# Altium footprint library Connector_Molex.PcbLib: 815 footprints (part 24 of 51)
Each footprint in its own frame and in the unit in brackets; x right, y up, seen from the top. Pads: shape width x height; smd on the part's side, far side on the other; paste and mask are expansions set on the pad; w line width, h text height; cw(c..) or ccw(c..) is an arc to the next point about the centre after c.
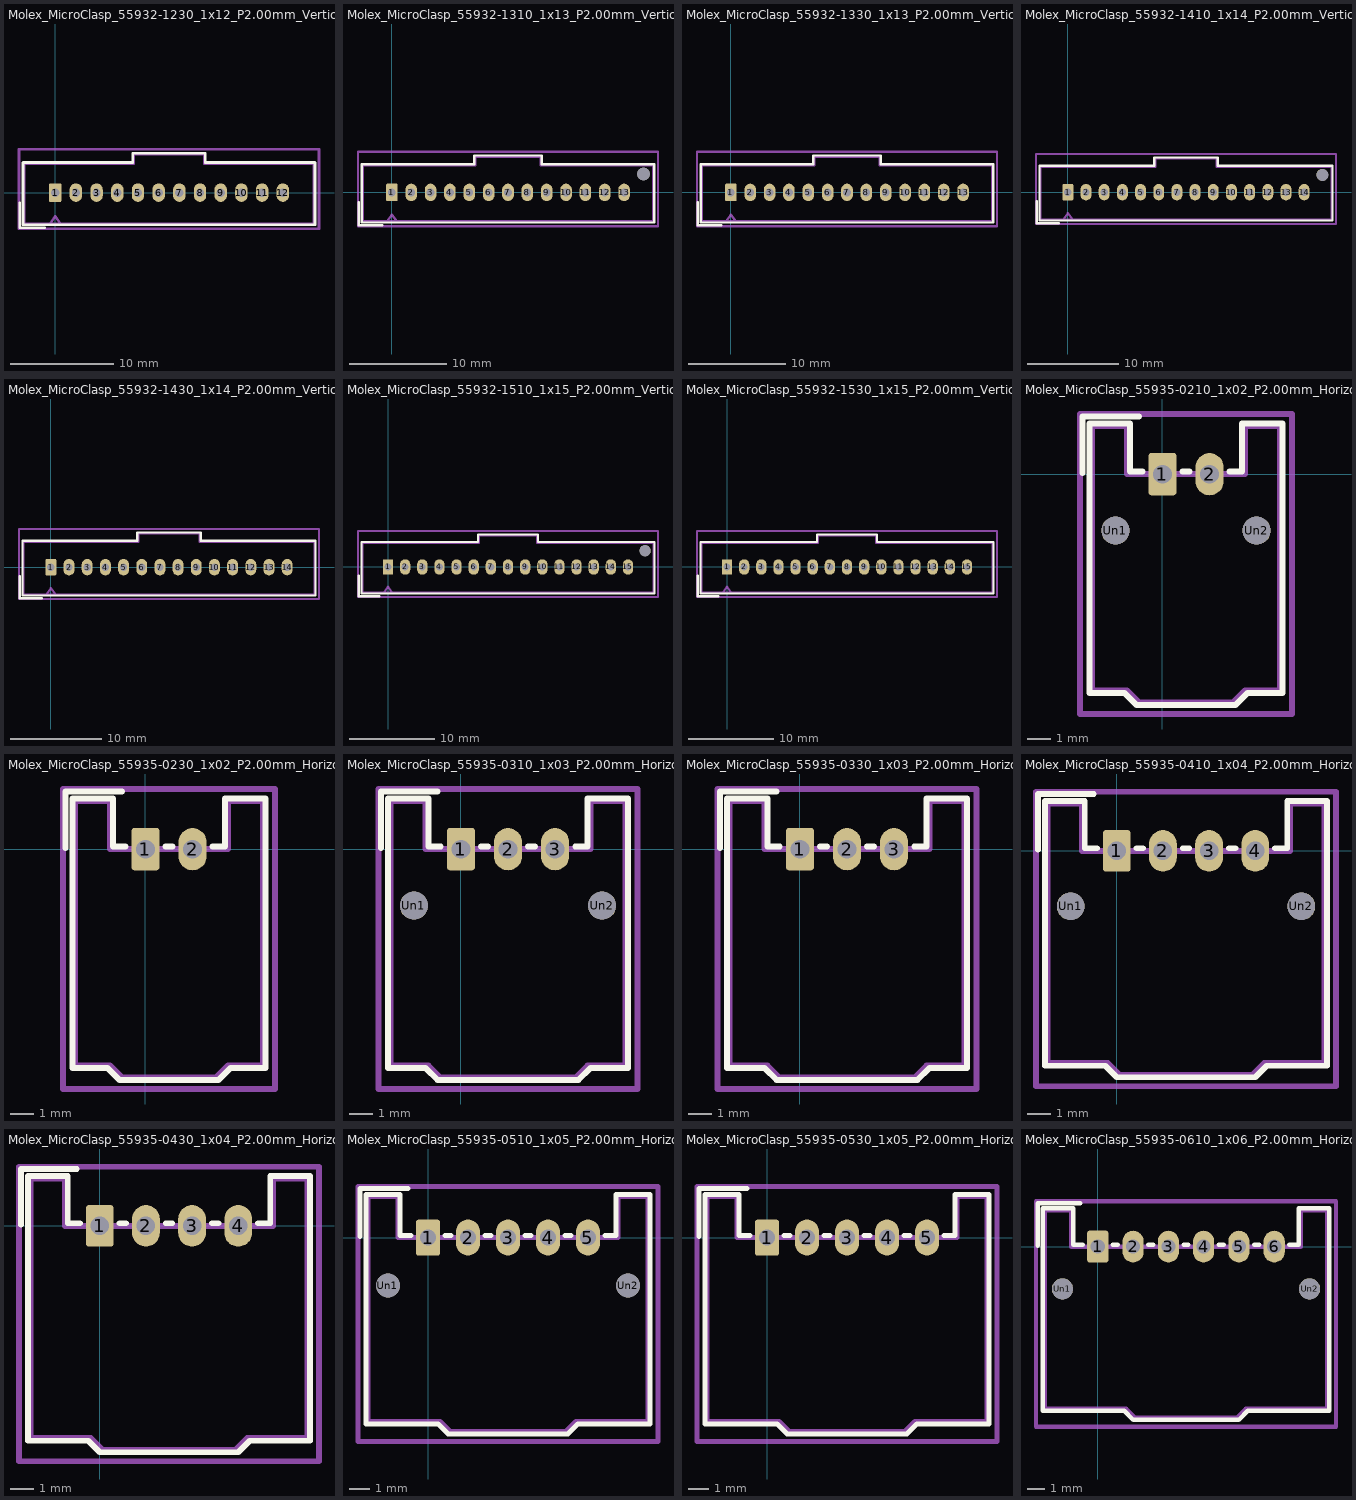
[diagram p23: the footprints below, top view; thin cyan lines are the x and y axes]

## Molex_MicroClasp_55932-1230_1x12_P2.00mm_Vertical [mm]
pads (12):
  rrect21% 1.2x1.8 hole 0.8: 1(0,0)
  rrect100% 1.2x1.8 hole 0.8: 2(2,0) 3(4,0) 4(6,0) 5(8,0) 6(10,0) 7(12,0) 8(14,0) 9(16,0) 10(18,0) 11(20,0) 12(22,0)
F.SilkS:
  lines w0.254: -3.41,-1 -3.41,-3.41 -1,-3.41 ; -3.11,-3.11 11,-3.11 25.11,-3.11 25.11,2.91 14.5,2.91 14.5,3.81 11,3.81 7.5,3.81 7.5,2.91 -3.11,2.91 -3.11,-3.11
Top Assembly:
  lines w0.254: -0.5,-3 0,-2.293 0.5,-3 ; -3,-3 11,-3 25,-3 25,2.8 14.39,2.8 14.39,3.7 11,3.7 7.61,3.7 7.61,2.8 -3,2.8 -3,-3
  text "'.Designator'" at 6.953,1.26 h1
Top Courtyard:
  lines w0.254: -3.5,-3.5 25.5,-3.5 25.5,4.2 -3.5,4.2 -3.5,-3.5
Top Designator:
  text ".Designator" at 3.382,-0.158 h1.52

## Molex_MicroClasp_55932-1310_1x13_P2.00mm_Vertical [mm]
pads (14):
  rrect21% 1.2x1.8 hole 0.8: 1(0,0)
  rrect100% 1.2x1.8 hole 0.8: 2(2,0) 3(4,0) 4(6,0) 5(8,0) 6(10,0) 7(12,0) 8(14,0) 9(16,0) 10(18,0) 11(20,0) 12(22,0) 13(24,0)
  round 1.3 hole 1.3: Un1(26,1.9)
F.SilkS:
  lines w0.254: -3.41,-1 -3.41,-3.41 -1,-3.41 ; -3.11,-3.11 12,-3.11 27.11,-3.11 27.11,2.91 15.5,2.91 15.5,3.81 12,3.81 8.5,3.81 8.5,2.91 -3.11,2.91 -3.11,-3.11
Top Assembly:
  lines w0.254: -0.5,-3 0,-2.293 0.5,-3 ; -3,-3 12,-3 27,-3 27,2.8 15.39,2.8 15.39,3.7 12,3.7 8.61,3.7 8.61,2.8 -3,2.8 -3,-3
  text "'.Designator'" at 7.953,1.26 h1
Top Courtyard:
  lines w0.254: -3.5,-3.5 27.5,-3.5 27.5,4.2 -3.5,4.2 -3.5,-3.5
Top Designator:
  text ".Designator" at 4.382,-0.158 h1.52

## Molex_MicroClasp_55932-1330_1x13_P2.00mm_Vertical [mm]
pads (13):
  rrect21% 1.2x1.8 hole 0.8: 1(0,0)
  rrect100% 1.2x1.8 hole 0.8: 2(2,0) 3(4,0) 4(6,0) 5(8,0) 6(10,0) 7(12,0) 8(14,0) 9(16,0) 10(18,0) 11(20,0) 12(22,0) 13(24,0)
F.SilkS:
  lines w0.254: -3.41,-1 -3.41,-3.41 -1,-3.41 ; -3.11,-3.11 12,-3.11 27.11,-3.11 27.11,2.91 15.5,2.91 15.5,3.81 12,3.81 8.5,3.81 8.5,2.91 -3.11,2.91 -3.11,-3.11
Top Assembly:
  lines w0.254: -0.5,-3 0,-2.293 0.5,-3 ; -3,-3 12,-3 27,-3 27,2.8 15.39,2.8 15.39,3.7 12,3.7 8.61,3.7 8.61,2.8 -3,2.8 -3,-3
  text "'.Designator'" at 7.953,1.26 h1
Top Courtyard:
  lines w0.254: -3.5,-3.5 27.5,-3.5 27.5,4.2 -3.5,4.2 -3.5,-3.5
Top Designator:
  text ".Designator" at 4.382,-0.158 h1.52

## Molex_MicroClasp_55932-1410_1x14_P2.00mm_Vertical [mm]
pads (15):
  rrect21% 1.2x1.8 hole 0.8: 1(0,0)
  rrect100% 1.2x1.8 hole 0.8: 2(2,0) 3(4,0) 4(6,0) 5(8,0) 6(10,0) 7(12,0) 8(14,0) 9(16,0) 10(18,0) 11(20,0) 12(22,0) 13(24,0) 14(26,0)
  round 1.3 hole 1.3: Un1(28,1.9)
F.SilkS:
  lines w0.254: -3.41,-1 -3.41,-3.41 -1,-3.41 ; -3.11,-3.11 13,-3.11 29.11,-3.11 29.11,2.91 16.5,2.91 16.5,3.81 13,3.81 9.5,3.81 9.5,2.91 -3.11,2.91 -3.11,-3.11
Top Assembly:
  lines w0.254: -0.5,-3 0,-2.293 0.5,-3 ; -3,-3 13,-3 29,-3 29,2.8 16.39,2.8 16.39,3.7 13,3.7 9.61,3.7 9.61,2.8 -3,2.8 -3,-3
  text "'.Designator'" at 8.953,1.26 h1
Top Courtyard:
  lines w0.254: -3.5,-3.5 29.5,-3.5 29.5,4.2 -3.5,4.2 -3.5,-3.5
Top Designator:
  text ".Designator" at 5.382,-0.158 h1.52

## Molex_MicroClasp_55932-1430_1x14_P2.00mm_Vertical [mm]
pads (14):
  rrect21% 1.2x1.8 hole 0.8: 1(0,0)
  rrect100% 1.2x1.8 hole 0.8: 2(2,0) 3(4,0) 4(6,0) 5(8,0) 6(10,0) 7(12,0) 8(14,0) 9(16,0) 10(18,0) 11(20,0) 12(22,0) 13(24,0) 14(26,0)
F.SilkS:
  lines w0.254: -3.41,-1 -3.41,-3.41 -1,-3.41 ; -3.11,-3.11 13,-3.11 29.11,-3.11 29.11,2.91 16.5,2.91 16.5,3.81 13,3.81 9.5,3.81 9.5,2.91 -3.11,2.91 -3.11,-3.11
Top Assembly:
  lines w0.254: -0.5,-3 0,-2.293 0.5,-3 ; -3,-3 13,-3 29,-3 29,2.8 16.39,2.8 16.39,3.7 13,3.7 9.61,3.7 9.61,2.8 -3,2.8 -3,-3
  text "'.Designator'" at 8.953,1.26 h1
Top Courtyard:
  lines w0.254: -3.5,-3.5 29.5,-3.5 29.5,4.2 -3.5,4.2 -3.5,-3.5
Top Designator:
  text ".Designator" at 5.382,-0.158 h1.52

## Molex_MicroClasp_55932-1510_1x15_P2.00mm_Vertical [mm]
pads (16):
  rrect21% 1.2x1.8 hole 0.8: 1(0,0)
  rrect100% 1.2x1.8 hole 0.8: 2(2,0) 3(4,0) 4(6,0) 5(8,0) 6(10,0) 7(12,0) 8(14,0) 9(16,0) 10(18,0) 11(20,0) 12(22,0) 13(24,0) 14(26,0) 15(28,0)
  round 1.3 hole 1.3: Un1(30,1.9)
F.SilkS:
  lines w0.254: -3.41,-1 -3.41,-3.41 -1,-3.41 ; -3.11,-3.11 14,-3.11 31.11,-3.11 31.11,2.91 17.5,2.91 17.5,3.81 14,3.81 10.5,3.81 10.5,2.91 -3.11,2.91 -3.11,-3.11
Top Assembly:
  lines w0.254: -0.5,-3 0,-2.293 0.5,-3 ; -3,-3 14,-3 31,-3 31,2.8 17.39,2.8 17.39,3.7 14,3.7 10.61,3.7 10.61,2.8 -3,2.8 -3,-3
  text "'.Designator'" at 9.953,1.26 h1
Top Courtyard:
  lines w0.254: -3.5,-3.5 31.5,-3.5 31.5,4.2 -3.5,4.2 -3.5,-3.5
Top Designator:
  text ".Designator" at 6.382,-0.158 h1.52

## Molex_MicroClasp_55932-1530_1x15_P2.00mm_Vertical [mm]
pads (15):
  rrect21% 1.2x1.8 hole 0.8: 1(0,0)
  rrect100% 1.2x1.8 hole 0.8: 2(2,0) 3(4,0) 4(6,0) 5(8,0) 6(10,0) 7(12,0) 8(14,0) 9(16,0) 10(18,0) 11(20,0) 12(22,0) 13(24,0) 14(26,0) 15(28,0)
F.SilkS:
  lines w0.254: -3.41,-1 -3.41,-3.41 -1,-3.41 ; -3.11,-3.11 14,-3.11 31.11,-3.11 31.11,2.91 17.5,2.91 17.5,3.81 14,3.81 10.5,3.81 10.5,2.91 -3.11,2.91 -3.11,-3.11
Top Assembly:
  lines w0.254: -0.5,-3 0,-2.293 0.5,-3 ; -3,-3 14,-3 31,-3 31,2.8 17.39,2.8 17.39,3.7 14,3.7 10.61,3.7 10.61,2.8 -3,2.8 -3,-3
  text "'.Designator'" at 9.953,1.26 h1
Top Courtyard:
  lines w0.254: -3.5,-3.5 31.5,-3.5 31.5,4.2 -3.5,4.2 -3.5,-3.5
Top Designator:
  text ".Designator" at 6.382,-0.158 h1.52

## Molex_MicroClasp_55935-0210_1x02_P2.00mm_Horizontal [mm]
pads (4):
  rrect21% 1.2x1.8 hole 0.8: 1(0,0)
  rrect100% 1.2x1.8 hole 0.8: 2(2,0)
  round 1.2 hole 1.2: Un1(-2,-2.4) Un2(4,-2.4)
F.SilkS:
  lines w0.254: -3.41,0.05 -3.41,2.46 -1,2.46 ; -0.86,0.11 -1.39,0.11 -1.39,2.16 -3.11,2.16 -3.11,-9.31 -1.61,-9.31 -1.11,-9.81 1,-9.81 3.11,-9.81 3.61,-9.31 5.11,-9.31 5.11,2.16 3.39,2.16 3.39,0.11 2.86,0.11 ; 0.86,0.11 1.14,0.11
Top Assembly:
  lines w0.254: -0.5,0 0,-0.707 0.5,0 ; -3,-9.2 -1.5,-9.2 -1,-9.7 1,-9.7 3,-9.7 3.5,-9.2 5,-9.2 5,2.05 3.5,2.05 3.5,0 1,0 -1.5,0 -1.5,2.05 -3,2.05 -3,-9.2
  text "'.Designator'" at -3.047,-9.34 h1
Top Courtyard:
  lines w0.254: -3.5,-10.2 5.5,-10.2 5.5,2.56 -3.5,2.56 -3.5,-10.2
Top Designator:
  text ".Designator" at -6.618,-4.328 h1.52

## Molex_MicroClasp_55935-0230_1x02_P2.00mm_Horizontal [mm]
pads (2):
  rrect21% 1.2x1.8 hole 0.8: 1(0,0)
  rrect100% 1.2x1.8 hole 0.8: 2(2,0)
F.SilkS:
  lines w0.254: -3.41,0.05 -3.41,2.46 -1,2.46 ; -0.86,0.11 -1.39,0.11 -1.39,2.16 -3.11,2.16 -3.11,-9.31 -1.61,-9.31 -1.11,-9.81 1,-9.81 3.11,-9.81 3.61,-9.31 5.11,-9.31 5.11,2.16 3.39,2.16 3.39,0.11 2.86,0.11 ; 0.86,0.11 1.14,0.11
Top Assembly:
  lines w0.254: -0.5,0 0,-0.707 0.5,0 ; -3,-9.2 -1.5,-9.2 -1,-9.7 1,-9.7 3,-9.7 3.5,-9.2 5,-9.2 5,2.05 3.5,2.05 3.5,0 1,0 -1.5,0 -1.5,2.05 -3,2.05 -3,-9.2
  text "'.Designator'" at -3.047,-9.34 h1
Top Courtyard:
  lines w0.254: -3.5,-10.2 5.5,-10.2 5.5,2.56 -3.5,2.56 -3.5,-10.2
Top Designator:
  text ".Designator" at -6.618,-4.328 h1.52

## Molex_MicroClasp_55935-0310_1x03_P2.00mm_Horizontal [mm]
pads (5):
  rrect21% 1.2x1.8 hole 0.8: 1(0,0)
  rrect100% 1.2x1.8 hole 0.8: 2(2,0) 3(4,0)
  round 1.2 hole 1.2: Un1(-2,-2.4) Un2(6,-2.4)
F.SilkS:
  lines w0.254: -3.41,0.05 -3.41,2.46 -1,2.46 ; -0.86,0.11 -1.39,0.11 -1.39,2.16 -3.11,2.16 -3.11,-9.31 -1.5,-9.31 -1,-9.81 2,-9.81 5,-9.81 5.5,-9.31 7.11,-9.31 7.11,2.16 5.39,2.16 5.39,0.11 4.86,0.11 ; 0.86,0.11 1.14,0.11 ; 2.86,0.11 3.14,0.11
Top Assembly:
  lines w0.254: -0.5,0 0,-0.707 0.5,0 ; -3,-9.2 -1.39,-9.2 -0.89,-9.7 2,-9.7 4.89,-9.7 5.39,-9.2 7,-9.2 7,2.05 5.5,2.05 5.5,0 2,0 -1.5,0 -1.5,2.05 -3,2.05 -3,-9.2
  text "'.Designator'" at -2.047,-9.34 h1
Top Courtyard:
  lines w0.254: -3.5,-10.2 7.5,-10.2 7.5,2.56 -3.5,2.56 -3.5,-10.2
Top Designator:
  text ".Designator" at -5.618,-4.328 h1.52

## Molex_MicroClasp_55935-0330_1x03_P2.00mm_Horizontal [mm]
pads (3):
  rrect21% 1.2x1.8 hole 0.8: 1(0,0)
  rrect100% 1.2x1.8 hole 0.8: 2(2,0) 3(4,0)
F.SilkS:
  lines w0.254: -3.41,0.05 -3.41,2.46 -1,2.46 ; -0.86,0.11 -1.39,0.11 -1.39,2.16 -3.11,2.16 -3.11,-9.31 -1.5,-9.31 -1,-9.81 2,-9.81 5,-9.81 5.5,-9.31 7.11,-9.31 7.11,2.16 5.39,2.16 5.39,0.11 4.86,0.11 ; 0.86,0.11 1.14,0.11 ; 2.86,0.11 3.14,0.11
Top Assembly:
  lines w0.254: -0.5,0 0,-0.707 0.5,0 ; -3,-9.2 -1.39,-9.2 -0.89,-9.7 2,-9.7 4.89,-9.7 5.39,-9.2 7,-9.2 7,2.05 5.5,2.05 5.5,0 2,0 -1.5,0 -1.5,2.05 -3,2.05 -3,-9.2
  text "'.Designator'" at -2.047,-9.34 h1
Top Courtyard:
  lines w0.254: -3.5,-10.2 7.5,-10.2 7.5,2.56 -3.5,2.56 -3.5,-10.2
Top Designator:
  text ".Designator" at -5.618,-4.328 h1.52

## Molex_MicroClasp_55935-0410_1x04_P2.00mm_Horizontal [mm]
pads (6):
  rrect21% 1.2x1.8 hole 0.8: 1(0,0)
  rrect100% 1.2x1.8 hole 0.8: 2(2,0) 3(4,0) 4(6,0)
  round 1.2 hole 1.2: Un1(-2,-2.4) Un2(8,-2.4)
F.SilkS:
  lines w0.254: -3.41,0.05 -3.41,2.46 -1,2.46 ; -0.86,0.11 -1.39,0.11 -1.39,2.16 -3.11,2.16 -3.11,-9.31 -0.5,-9.31 0,-9.81 3,-9.81 6,-9.81 6.5,-9.31 9.11,-9.31 9.11,2.16 7.39,2.16 7.39,0.11 6.86,0.11 ; 0.86,0.11 1.14,0.11 ; 2.86,0.11 3.14,0.11 ; 4.86,0.11 5.14,0.11
Top Assembly:
  lines w0.254: -0.5,0 0,-0.707 0.5,0 ; -3,-9.2 -0.39,-9.2 0.11,-9.7 3,-9.7 5.89,-9.7 6.39,-9.2 9,-9.2 9,2.05 7.5,2.05 7.5,0 3,0 -1.5,0 -1.5,2.05 -3,2.05 -3,-9.2
  text "'.Designator'" at -1.047,-9.34 h1
Top Courtyard:
  lines w0.254: -3.5,-10.2 9.5,-10.2 9.5,2.56 -3.5,2.56 -3.5,-10.2
Top Designator:
  text ".Designator" at -4.618,-4.328 h1.52

## Molex_MicroClasp_55935-0430_1x04_P2.00mm_Horizontal [mm]
pads (4):
  rrect21% 1.2x1.8 hole 0.8: 1(0,0)
  rrect100% 1.2x1.8 hole 0.8: 2(2,0) 3(4,0) 4(6,0)
F.SilkS:
  lines w0.254: -3.41,0.05 -3.41,2.46 -1,2.46 ; -0.86,0.11 -1.39,0.11 -1.39,2.16 -3.11,2.16 -3.11,-9.31 -0.5,-9.31 0,-9.81 3,-9.81 6,-9.81 6.5,-9.31 9.11,-9.31 9.11,2.16 7.39,2.16 7.39,0.11 6.86,0.11 ; 0.86,0.11 1.14,0.11 ; 2.86,0.11 3.14,0.11 ; 4.86,0.11 5.14,0.11
Top Assembly:
  lines w0.254: -0.5,0 0,-0.707 0.5,0 ; -3,-9.2 -0.39,-9.2 0.11,-9.7 3,-9.7 5.89,-9.7 6.39,-9.2 9,-9.2 9,2.05 7.5,2.05 7.5,0 3,0 -1.5,0 -1.5,2.05 -3,2.05 -3,-9.2
  text "'.Designator'" at -1.047,-9.34 h1
Top Courtyard:
  lines w0.254: -3.5,-10.2 9.5,-10.2 9.5,2.56 -3.5,2.56 -3.5,-10.2
Top Designator:
  text ".Designator" at -4.618,-4.328 h1.52

## Molex_MicroClasp_55935-0510_1x05_P2.00mm_Horizontal [mm]
pads (7):
  rrect21% 1.2x1.8 hole 0.8: 1(0,0)
  rrect100% 1.2x1.8 hole 0.8: 2(2,0) 3(4,0) 4(6,0) 5(8,0)
  round 1.2 hole 1.2: Un1(-2,-2.4) Un2(10,-2.4)
F.SilkS:
  lines w0.254: -3.41,0.05 -3.41,2.46 -1,2.46 ; -0.86,0.11 -1.39,0.11 -1.39,2.16 -3.11,2.16 -3.11,-9.31 0.5,-9.31 1,-9.81 4,-9.81 7,-9.81 7.5,-9.31 11.11,-9.31 11.11,2.16 9.39,2.16 9.39,0.11 8.86,0.11 ; 0.86,0.11 1.14,0.11 ; 2.86,0.11 3.14,0.11 ; 4.86,0.11 5.14,0.11 ; 6.86,0.11 7.14,0.11
Top Assembly:
  lines w0.254: -0.5,0 0,-0.707 0.5,0 ; -3,-9.2 0.61,-9.2 1.11,-9.7 4,-9.7 6.89,-9.7 7.39,-9.2 11,-9.2 11,2.05 9.5,2.05 9.5,0 4,0 -1.5,0 -1.5,2.05 -3,2.05 -3,-9.2
  text "'.Designator'" at -0.047,-9.34 h1
Top Courtyard:
  lines w0.254: -3.5,-10.2 11.5,-10.2 11.5,2.56 -3.5,2.56 -3.5,-10.2
Top Designator:
  text ".Designator" at -3.618,-4.328 h1.52

## Molex_MicroClasp_55935-0530_1x05_P2.00mm_Horizontal [mm]
pads (5):
  rrect21% 1.2x1.8 hole 0.8: 1(0,0)
  rrect100% 1.2x1.8 hole 0.8: 2(2,0) 3(4,0) 4(6,0) 5(8,0)
F.SilkS:
  lines w0.254: -3.41,0.05 -3.41,2.46 -1,2.46 ; -0.86,0.11 -1.39,0.11 -1.39,2.16 -3.11,2.16 -3.11,-9.31 0.5,-9.31 1,-9.81 4,-9.81 7,-9.81 7.5,-9.31 11.11,-9.31 11.11,2.16 9.39,2.16 9.39,0.11 8.86,0.11 ; 0.86,0.11 1.14,0.11 ; 2.86,0.11 3.14,0.11 ; 4.86,0.11 5.14,0.11 ; 6.86,0.11 7.14,0.11
Top Assembly:
  lines w0.254: -0.5,0 0,-0.707 0.5,0 ; -3,-9.2 0.61,-9.2 1.11,-9.7 4,-9.7 6.89,-9.7 7.39,-9.2 11,-9.2 11,2.05 9.5,2.05 9.5,0 4,0 -1.5,0 -1.5,2.05 -3,2.05 -3,-9.2
  text "'.Designator'" at -0.047,-9.34 h1
Top Courtyard:
  lines w0.254: -3.5,-10.2 11.5,-10.2 11.5,2.56 -3.5,2.56 -3.5,-10.2
Top Designator:
  text ".Designator" at -3.618,-4.328 h1.52

## Molex_MicroClasp_55935-0610_1x06_P2.00mm_Horizontal [mm]
pads (8):
  rrect21% 1.2x1.8 hole 0.8: 1(0,0)
  rrect100% 1.2x1.8 hole 0.8: 2(2,0) 3(4,0) 4(6,0) 5(8,0) 6(10,0)
  round 1.2 hole 1.2: Un1(-2,-2.4) Un2(12,-2.4)
F.SilkS:
  lines w0.254: -3.41,0.05 -3.41,2.46 -1,2.46 ; -0.86,0.11 -1.39,0.11 -1.39,2.16 -3.11,2.16 -3.11,-9.31 1.5,-9.31 2,-9.81 5,-9.81 8,-9.81 8.5,-9.31 13.11,-9.31 13.11,2.16 11.39,2.16 11.39,0.11 10.86,0.11 ; 0.86,0.11 1.14,0.11 ; 2.86,0.11 3.14,0.11 ; 4.86,0.11 5.14,0.11 ; 6.86,0.11 7.14,0.11 ; 8.86,0.11 9.14,0.11
Top Assembly:
  lines w0.254: -0.5,0 0,-0.707 0.5,0 ; -3,-9.2 1.61,-9.2 2.11,-9.7 5,-9.7 7.89,-9.7 8.39,-9.2 13,-9.2 13,2.05 11.5,2.05 11.5,0 5,0 -1.5,0 -1.5,2.05 -3,2.05 -3,-9.2
  text "'.Designator'" at 0.953,-9.34 h1
Top Courtyard:
  lines w0.254: -3.5,-10.2 13.5,-10.2 13.5,2.56 -3.5,2.56 -3.5,-10.2
Top Designator:
  text ".Designator" at -2.618,-4.328 h1.52